# Altium footprint library LV1.PcbLib: 60 footprints (part 2 of 4)
Each footprint in its own frame and in the unit in brackets; x right, y up, seen from the top. Pads: shape width x height; smd on the part's side, far side on the other; paste and mask are expansions set on the pad; w line width, h text height; cw(c..) or ccw(c..) is an arc to the next point about the centre after c.
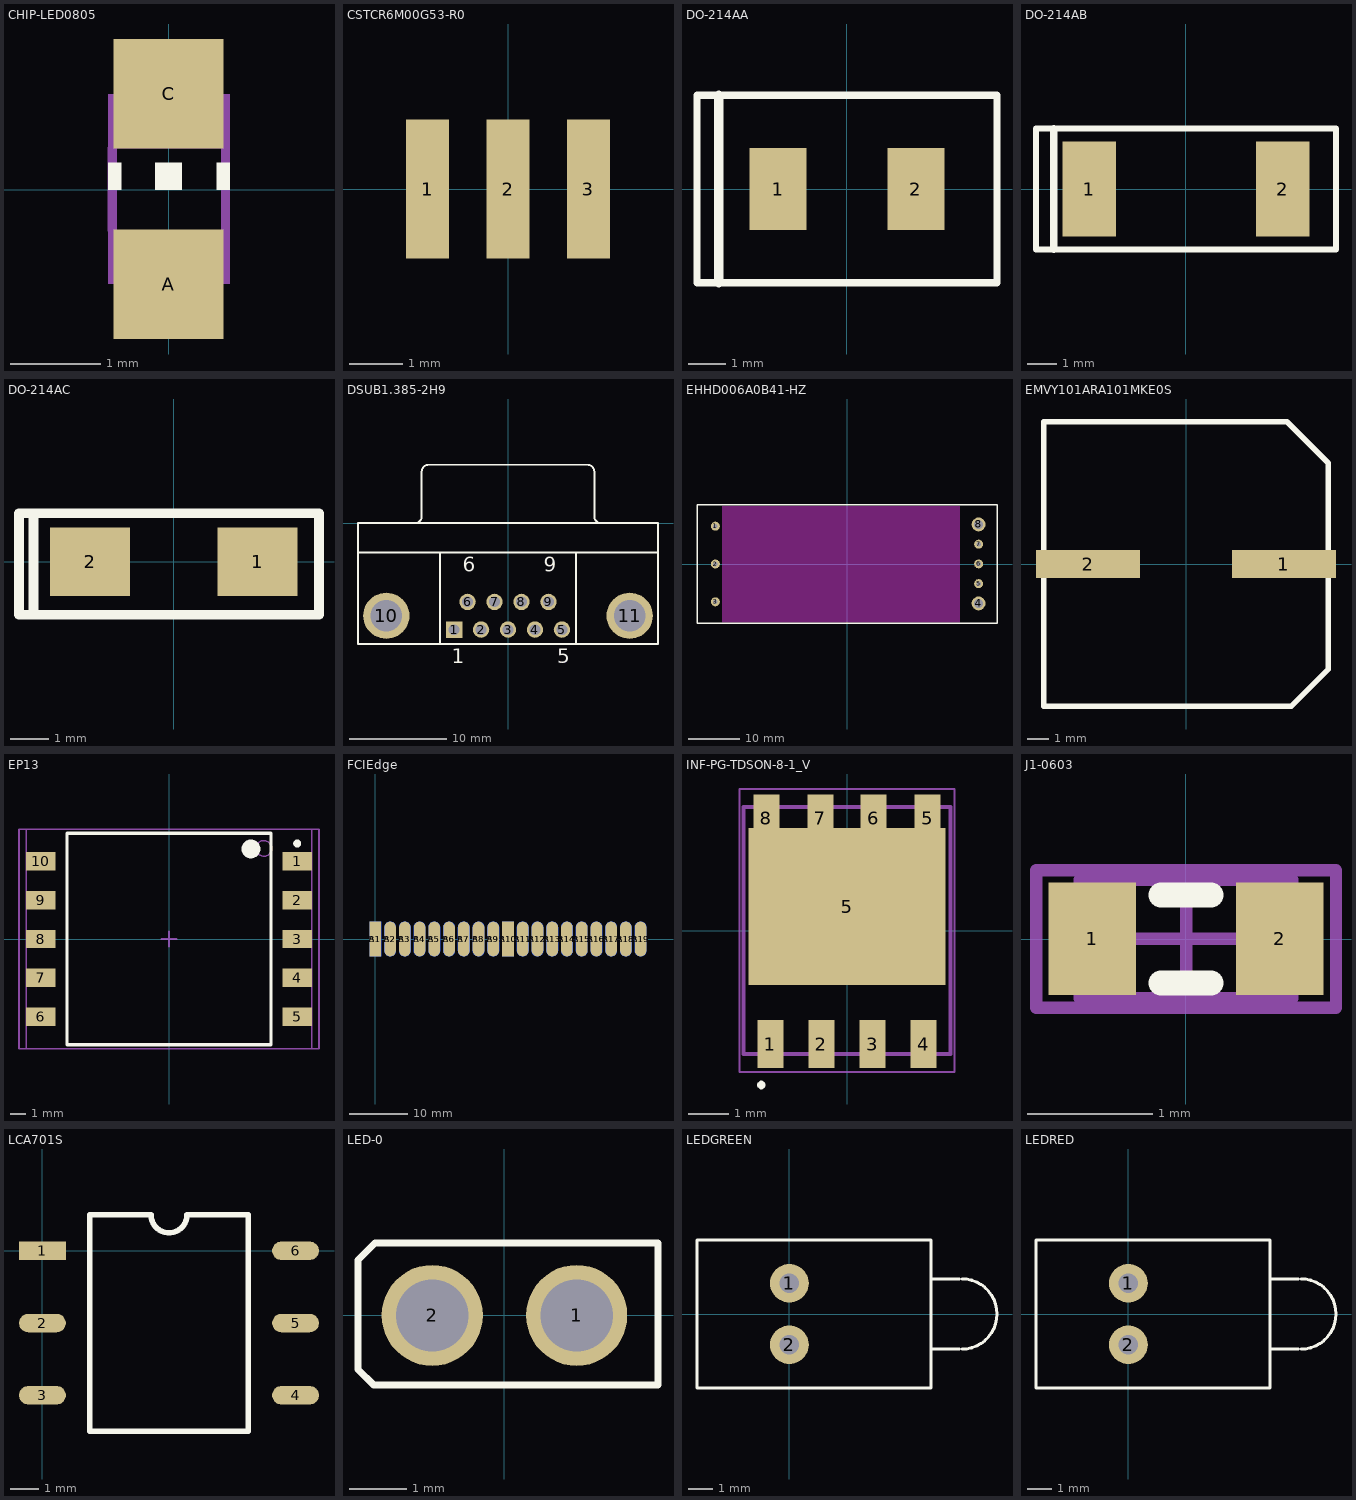
[diagram p1: the footprints below, top view; thin cyan lines are the x and y axes]

## CHIP-LED0805 [mil]
height 280.31
pads (2):
  rect 48x48 smd: A(0,-41.34) C(0,42)
Top Overlay:
  rectangle: -5.91,0 6,12
  rectangle: 21,0 27,12
  rectangle: -26.57,0 -20.67,12
Mechanical 16:
  rectangle: -26.57,-41.34 27,-17.72
  rectangle: -26.57,18 27,42
  lines w4: -24.61,-17.72 -24.61,18 ; 25,-18.7 25,18

## CSTCR6M00G53-R0 [mm]
pads (3):
  rect 0.8x2.6 smd: 1(-1.5,0) 2(0,0) 3(1.5,0)

## DO-214AA [mm]
height 7.12
pads (2):
  rect 1.52x2.18 smd: 1(-1.84,0) 2(1.84,0)
Top Overlay:
  lines w0.2: -4.01,-2.5 -4.01,0 -4.01,2.5 4.01,2.5 4.01,-2.5 -4.01,-2.5
  lines w0.254: -3.429,-2.5 -3.429,2.5
3D body: height 0.5, standoff 0, extent 1.85,-0.7 2.15,0.7
3D body: height 0.5, standoff 0, extent -2.1,-0.7 -1.8,0.7
3D body: height 2, standoff 0, extent -1.8,-1.7 1.9,1.7

## DO-214AB [mm]
height 7.12
pads (2):
  rect 1.8x3.2 smd: 1(-3.25,0) 2(3.25,0)
Top Overlay:
  lines w0.2: -5.05,-2.032 5.05,-2.032 5.05,2.032 -5.05,2.032 -5.05,0 -5.05,-2.032
  lines w0.254: -4.445,-2.032 -4.445,2.032

## DO-214AC [mm] "LED; 2 Leads"
height 8.6
pads (2):
  rect 2.1x1.8 smd: 1(2.2,0) 2(-2.2,0)
Top Overlay:
  lines w0.254: -3.683,-1.397 3.81,-1.397 3.81,1.27 -3.683,1.27 ; -3.683,-1.397 -3.683,1.27 ; -3.683,-1.397 -4.064,-1.397 -4.064,1.27 -3.683,1.27

## DSUB1.385-2H9 [mm] "Connector; D Subminiature; 9 Position; Right Angle; Pitch 1.385 mm"
height 12.75
pads (11):
  rect 1.69x1.69 hole 1.09: 1(-5.54,-10.92)
  round 1.69 hole 1.09: 2(-2.77,-10.92) 3(0,-10.92) 4(2.77,-10.92) 5(5.54,-10.92) 6(-4.155,-8.08) 7(-1.385,-8.08) 8(1.385,-8.08) 9(4.155,-8.08)
  round 4.76 hole 3.26: 10(-12.495,-9.5) 11(12.495,-9.5)
Top Overlay:
  lines w0.2: -15.4,-3 15.4,-3 ; -9.56,0.005 ccw(c-9.56,0.7) -8.865,0.7 -8.865,5.3 ; -8.86,5.305 cw(c-8.165,5.305) -8.165,6 8.165,6 cw(c8.165,5.305) 8.86,5.305 ; -7,-12.4 -7,-3 ; 7,-12.4 7,-3 ; 8.865,5.3 8.865,0.7 ccw(c9.56,0.7) 9.56,0.005 ; -15.4,-12.4 15.4,-12.4 15.4,0 -15.4,0 -15.4,-12.4
  text "6" at -4.655,-4.975 h1.5
  text "9" at 3.655,-4.975 h1.5
  text "5" at 5.04,-14.375 h1.5
  text "1" at -5.79,-14.375 h1.5
3D body "182-009-213.STEP": height 12.55, standoff -3.17, extent -15.278,-12.852 15.532,6.223

## EHHD006A0B41-HZ [mm]
pads (8):
  round 1.724 hole 0.9: 1(-25.4,7.3) 2(-25.4,0) 3(-25.4,-7.3) 5(25.4,-3.79) 6(25.4,0.02) 7(25.4,3.83)
  round 2.7 hole 1.7: 4(25.4,-7.6) 8(25.4,7.64)
Top Overlay:
  lines w0.254: -28.95,-11.4 28.95,-11.4 28.95,11.4 -28.95,11.4 -28.95,-11.4
Keep-Out Layer:
  rectangle: -24.1,-11.3 21.8,11.2
3D body: height 3, standoff 0, extent -25.846,6.851 -24.95,7.749
3D body: height 3, standoff 0, extent -25.846,-0.449 -24.95,0.449
3D body: height 3, standoff 0, extent -25.846,-7.749 -24.95,-6.851
3D body: height 3, standoff 0, extent 24.954,3.381 25.85,4.279
3D body: height 3, standoff 0, extent 24.954,-0.429 25.85,0.469
3D body: height 3, standoff 0, extent 24.954,-4.239 25.85,-3.341
3D body: height 3, standoff 0, extent 24.557,6.792 26.25,8.489
3D body: height 3, standoff 0, extent 24.557,-8.448 26.25,-6.751
3D body: height 5, standoff 2, extent -28.8,-11.5 28.9,11.3
3D body: height 7, standoff 5, extent -27.6,-10.1 27,10.5
3D body: height 9, standoff 7, extent -28.8,-11.5 28.9,11.3

## EMVY101ARA101MKE0S [mm]
height 7.12
pads (2):
  rect 4.75x1.3 smd: 1(4.475,0) 2(-4.475,0)
Top Overlay:
  lines w0.254: -6.5,-6.5 -6.5,6.5 4.6,6.5 6.5,4.6 6.5,-4.8 4.8,-6.5 -6.5,-6.5

## EP13 [mm] "SMD, 10-Leads, Body 13.5x14.0mm (max), Pitch 2.48mm, IPC Medium Density"
height 12.7
pads (10):
  rect 1.88x1.17 smd: 1(8.18,4.96) 2(8.18,2.48) 3(8.18,0) 4(8.18,-2.48) 5(8.18,-4.96) 6(-8.18,-4.96) 7(-8.18,-2.48) 8(-8.18,0) 9(-8.18,2.48) 10(-8.18,4.96)
Top Overlay:
  circle w0.25: c8.18,6.095 r0.125
  circle w0.6: c5.23,5.75 r0.3
  lines w0.2: -6.5,-6.75 -6.5,6.75 6.5,6.75 6.5,-6.75 -6.5,-6.75
Mechanical 13:
  circle w0.1: c6.05,5.78 r0.5
  lines w0.1: -9.1,-7 -9.1,7 9.1,7 9.1,-7 -9.1,-7
Mechanical 15:
  lines w0.1: -0.5,0 0.5,0 ; 0,-0.5 0,0.5 ; -9.575,-7 -9.575,7 9.575,7 9.575,-7 -9.575,-7
3D body "WE-FB_EP13.stp": height 12.5, standoff 0, extent -8.875,-6.75 8.875,6.75

## FCIEdge [mm]
pads (38):
  rect 2x6 smd: A1(0,0) A10(22.86,0)
  oval 2x6 smd: A2(2.54,0) A3(5.08,0) A4(7.62,0) A5(10.16,0) A6(12.7,0) A7(15.24,0) A8(17.78,0) A9(20.32,0) A11(25.4,0) A12(27.94,0) A13(30.48,0) A14(33.02,0) A15(35.56,0) A16(38.1,0) A17(40.64,0) A18(43.18,0) A19(45.72,0)
  rect 2x6 smd far side: B1(0,0) B10(22.86,0)
  oval 2x6 smd far side: B2(2.54,0) B3(5.08,0) B4(7.62,0) B5(10.16,0) B6(12.7,0) B7(15.24,0) B8(17.78,0) B9(20.32,0) B11(25.4,0) B12(27.94,0) B13(30.48,0) B14(33.02,0) B15(35.56,0) B16(38.1,0) B17(40.64,0) B18(43.18,0) B19(45.72,0)

## INF-PG-TDSON-8-1_V [mm] "TDSON, 8-Leads, Body 6.15x5.15mm, Pitch 1.27mm"
height 1
pads (9):
  rect 0.65x1.2 smd: 1(-1.905,-2.825) 2(-0.635,-2.825) 3(0.635,-2.825) 4(1.905,-2.825) 5(2.007,2.794) 6(0.66,2.794) 7(-0.66,2.794) 8(-2.007,2.794)
  rect 4.9x3.9 smd: 5(0,0.6)
Top Overlay:
  region: -2.234,-3.842 -2.234,-3.862 -2.218,-3.899 -2.19,-3.927 -2.153,-3.942 -2.134,-3.942 -2.114,-3.942 -2.077,-3.927 -2.049,-3.899 -2.034,-3.862 -2.034,-3.842 -2.034,-3.822 -2.049,-3.785 -2.077,-3.757 -2.114,-3.742 -2.134,-3.742 -2.153,-3.742 -2.19,-3.757 -2.218,-3.785 -2.234,-3.822
Mechanical 13:
  lines w0.1: -2.575,-3.075 2.575,-3.075 2.575,3.075 -2.575,3.075 -2.575,-3.075
Mechanical 15:
  lines w0.05: -2.675,-3.525 2.675,-3.525 2.675,3.525 -2.675,3.525 -2.675,-3.525
  lines w0.1: -0.5,0 0.5,0 ; 0,-0.5 0,0.5
3D body: height 1, standoff 0, extent -2.575,-3.075 2.575,3.075

## J1-0603 [mm] "Chip Resistor, Body 1.6x0.8mm, IPC High Density"
height 0.9
pads (2):
  rect 0.7x0.9 smd: 1(-0.75,0) 2(0.75,0)
Top Overlay:
  lines w0.2: -0.2,-0.35 0.2,-0.35 ; -0.2,0.35 0.2,0.35
Mechanical 13:
  lines w0.1: -0.85,-0.475 0.85,-0.475 0.85,0.475 -0.85,0.475 -0.85,-0.475
Mechanical 15:
  lines w0.1: -0.475,0 0.475,0 ; 0,-0.475 0,0.475 ; -1.2,-0.55 1.2,-0.55 1.2,0.55 -1.2,0.55 -1.2,-0.55
3D body: height 0.9, standoff 0, extent -0.85,-0.475 0.85,0.475

## LCA701S [mm]
pads (6):
  rect 1.65x0.65 smd: 1(0,0)
  oval 1.65x0.65 smd: 2(0,-2.54) 3(0,-5.08) 4(8.9,-5.08) 5(8.9,-2.54) 6(8.9,0)
Top Overlay:
  lines w0.2: 1.66,-6.35 1.66,1.27 3.815,1.27 ccw(c4.45,1.27) 5.085,1.27 7.24,1.27 7.24,-6.35 1.66,-6.35

## LED-0 [mil] "LED; 2 Leads"
height 280.31
pads (2):
  round 70 hole 50: 1(50,0) 2(-50,0)
Top Overlay:
  lines w5: -101.38,-37.4 -90.55,-48.23 106.3,-48.23 106.3,50.2 -89.57,50.2 -101.38,38.39 -101.38,-37.4

## LEDGREEN [mm] "LED; 2 Leads"
pads (2):
  round 1.6 hole 0.8: 1(0,1.27) 2(0,-1.27)
Top Overlay:
  lines w0.127: 5.924,-1.45 7.024,-1.45 ; 5.924,1.45 7.024,1.45 ; 7.112,-1.45 ccw(c7.112,0) 7.112,1.45 ; -3.81,-3.048 5.842,-3.048 5.842,3.048 -3.81,3.048 -3.81,-3.048
3D body "5500407F.stp": height 5.97, standoff -3.68, extent -3.758,-3.048 8.636,2.921

## LEDRED [mm] "LED; 2 Leads"
pads (2):
  round 1.6 hole 0.8: 1(0,1.27) 2(0,-1.27)
Top Overlay:
  lines w0.127: 5.924,-1.45 7.024,-1.45 ; 5.924,1.45 7.024,1.45 ; 7.112,-1.45 ccw(c7.112,0) 7.112,1.45 ; -3.81,-3.048 -3.81,3.048 5.842,3.048 5.842,-3.048 -3.81,-3.048
3D body "5500407F_red.stp": height 5.97, standoff -3.68, extent -3.758,-3.048 8.636,2.921